# Altium schematic symbol library IPB016N06L3 G.SchLib: 1 symbol
Pins are listed as number, name and electrical type; pins without a type are passive.

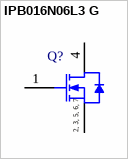
[diagram p0: symbol IPB016N06L3 G]

## IPB016N06L3 G
designator Q?
N-Channel OptiMOS 3 Power-Transistor, 60 V VDS, 180 A ID, -55 to 175 degC, PG-TO-263-7-2, Reel, Green; Manufacturer: Infineon; PartNumber: IPB016N06L3 G; Green: TRUE; ID (max): 180 A; IDpuls (max): 720 A; Polarity: N; Ptot (max): 250 W; QG: 125 nC; RDS (on) (max): 1.6 mOhm; RDS (on) (max) (@4.5V): 2.7 mOhm; Rth: 0.6 K/W; RthJA (max): 62 K/W; VDS (max): 60 V; VGS(th) (max): 2.2 V; VGS(th) (min): 1.2 V; DatasheetVersion: Rev. 2.3; PackageVersion: Rev. 01, 11/2007; PackageReference: PG-TO-263-7-2; PackageDescription: 7-Pin Plastic (Green) Transistor Single Outline Package, 10.1 x 8.98 mm Body, 1.27 mm Pitch; Supplier 1: Digi-Key; Supplier Part Number 1: IPB016N06L3 GTR-ND; Supplier 2: Digi-Key; Supplier Part Number 2: IPB016N06L3 GCT-ND; Supplier 3: Digi-Key; Supplier Part Number 3: IPB016N06L3 GDKR-ND; Supplier 4: Mouser; Supplier Part Number 4: 726-IPB016N06L3G; Halogen-free: TRUE; Packing: Reel; RthJC (max): 0.6 K/W; Mounting Technology: Surface Mount; ComponentLink1Description: Manufacturer URL; ComponentLink1URL: http://www.infineon.com/; ComponentLink2Description: Datasheet; ComponentLink2URL: http://www.infineon.com/dgdl/IPB016N06L3_Rev2.3.pdf?folderId=db3a30431441fb5d01148ca9f1be0e77&fileId=db3a30431ddc9372011e261543e54693; ComponentLink3Description: Package Specification; ComponentLink3URL: http://www.infineon.com/dgdl/BTS621L1_20030922.pdf?folderId=db3a30431400ef68011421b54e2e0564&fileId=db3a304333227b5e0133258247c72ecc&sId=db3a30433d68e984013d8539603e0d72
footprint INF-PG-TO-263-7-2_N (DPAK, 7-Leads, Body 10.1x8.98mm, Pitch 1.27mm, IPC Medium Density)
footprint INF-PG-TO-263-7-2_L (DPAK, 7-Leads, Body 10.1x8.98mm, Pitch 1.27mm, IPC High Density)
footprint INF-PG-TO-263-7-2_M (DPAK, 7-Leads, Body 10.1x8.98mm, Pitch 1.27mm, IPC Low Density)
pins: 1 GATE, 2 SOURCE, 3 SOURCE, 4 DRAIN, 5 SOURCE, 6 SOURCE, 7 SOURCE
text: 2, 3, 5, 6, 7